# EAGLE library part 74HCT161D (library NXP_By_element14_Batch_1)
Presettable synchronous 4-bit binary counter
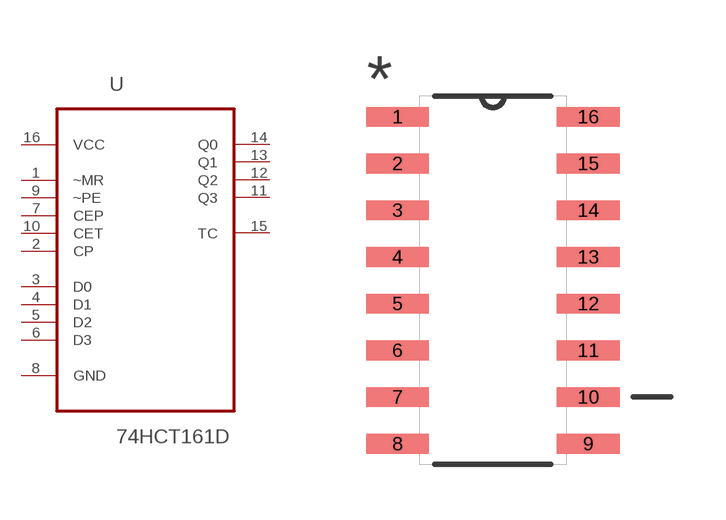
[diagram p181: symbol with the pads of SOIC127P600X175-16N; footprint SOIC127P600X175-16N]

Designator prefix U

## 74HCT161D (MPN: 74HCT161D; OC_FARNELL: 1085312; OC_NEWARK: 99K0551; PACKAGE: SOIC-16; SUPPLIER: NXP)  [SOIC127P600X175-16N]
1  ~MR  in
2  CP  in
3  D0  in
4  D1  in
5  D2  in
6  D3  in
7  CEP  in
8  GND  pas
9  ~PE  in
10  CET  in
11  Q3  out
12  Q2  out
13  Q1  out
14  Q0  out
15  TC  out
16  VCC  pwr

## Footprint SOIC127P600X175-16N (pad centres in mm)
smd 1.702 x 0.533: 1 -2.591,4.445; 2 -2.591,3.175; 3 -2.591,1.905; 4 -2.591,0.635; 5 -2.591,-0.635; 6 -2.591,-1.905; 7 -2.591,-3.175; 8 -2.591,-4.445; 9 2.591,-4.445; 10 2.591,-3.175; 11 2.591,-1.905; 12 2.591,-0.635; 13 2.591,0.635; 14 2.591,1.905; 15 2.591,3.175; 16 2.591,4.445